# EAGLE library part AD8375 (library AnalogDevices)
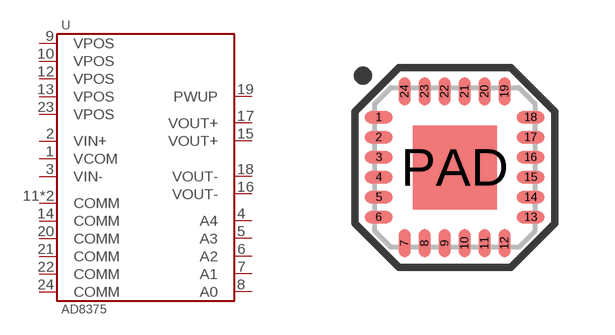
[diagram p5: symbol with the pads of VQFN-24-4MM; footprint VQFN-24-4MM]

Designator prefix U

## AD8375ACPZ-R7  [VQFN-24-4MM]
1  VCOM
2  VIN+
3  VIN-
4  A4
5  A3
6  A2
7  A1
8  A0
9  VPOS
10  VPOS
11  COMM
12  VPOS
13  VPOS
14  COMM
15  VOUT+
16  VOUT-
17  VOUT+
18  VOUT-
19  PWUP
20  COMM
21  COMM
22  COMM
23  VPOS
24  COMM
PAD  COMM

## Footprint VQFN-24-4MM (pad centres in mm)
smd 0.7 x 0.3: 1 -1.9,1.25; 2 -1.9,0.75; 3 -1.9,0.25; 4 -1.9,-0.25; 5 -1.9,-0.75; 6 -1.9,-1.25; 13 1.9,-1.25; 14 1.9,-0.75; 15 1.9,-0.25; 16 1.9,0.25; 17 1.9,0.75; 18 1.9,1.25
smd 0.3 x 0.7: 7 -1.25,-1.9; 8 -0.75,-1.9; 9 -0.25,-1.9; 10 0.25,-1.9; 11 0.75,-1.9; 12 1.25,-1.9; 19 1.25,1.9; 20 0.75,1.9; 21 0.25,1.9; 22 -0.25,1.9; 23 -0.75,1.9; 24 -1.25,1.9
smd 2.1 x 2.1: PAD 0,0